# Altium schematic symbol library IR2110S.SchLib: 1 symbol
Pins are listed as number, name and electrical type; pins without a type are passive.

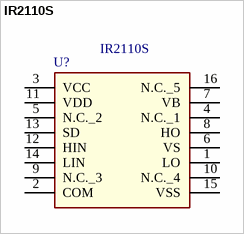
[diagram p0: symbol IR2110S]

## IR2110S
designator U?
IC DRIVER HIGH/LOW SIDE 16-SOIC; Manufacturer_Name: Infineon; Geometry.Height: 2.65mm; Manufacturer_Part_Number: IR2110S; Mouser Part Number: *; Mouser Price/Stock: *; Arrow Part Number: *; Arrow Price/Stock: *; Datasheet Link: https://www.infineon.com/dgdl/ir2110.pdf?fileId=5546d462533600a4015355c80333167e
footprint SOIC127P1036X391-16N
pins: 1 LO, 2 COM, 3 VCC, 4 N.C._1, 5 N.C._2, 6 VS, 7 VB, 8 HO, 9 N.C._3, 10 N.C._4, 11 VDD, 12 HIN, 13 SD, 14 LIN, 15 VSS, 16 N.C._5